# Altium schematic symbol library CMP-010-00003-3.Schlib: 1 symbol
Pins are listed as number, name and electrical type; pins without a type are passive.

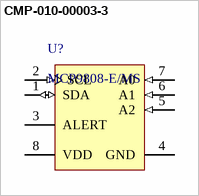
[diagram p0: symbol CMP-010-00003-3]

## CMP-010-00003-3
designator U?, comment MCP9808-E/MS
+/- 0.5 degC Maximum Accuracy Digital Temperature Sensor, 2.7 to 5.5 V, -40 to 125 degC, 8-Pin MSOP, Pb-Free, Tube; Manufacturer: Microchip; Min Supply Voltage (DC): 7V; Min Supply Voltage: 2.7V; Max Supply Voltage (DC): 5V; Output Current: 200µA; Interface: I2C; Case/Package: MSOP; Pins: 8; Max Operating Temperature: 125°C; Datasheet URL: http://ww1.microchip.com/downloads/en/DeviceDoc/25095A.pdf; Packaging: Tray; Package Reference: MSOP-MS8; Package Description: 8-Pin Plastic Micro Small Outline Package, Body 3 x 3 mm, Pitch 0.65 mm; Mounting Technology: SM; RoHS Compliant: True; Package Quantity: 100; Min Operating Temperature: -40°C; Sensor Type: Temperature; Max Supply Voltage: 5V; Datasheet Version: Rev. A, 10/2011
footprint MCHP-MSOP-MS8_M (SOP, 8-Leads, Body 3x3mm, Pitch 0.65mm, IPC Low Density)
footprint MCHP-MSOP-MS8_L (SOP, 8-Leads, Body 3x3mm, Pitch 0.65mm, IPC High Density)
footprint MCHP-MSOP-MS8_N (SOP, 8-Leads, Body 3x3mm, Pitch 0.65mm, IPC Medium Density)
pins: 1 SDA (io) "Serial Data Line", 2 SCL (in) "Serial Clock Line", 3 ALERT (oc) "Temperature Alert Output", 4 GND (power) "Ground", 5 A2 (in) "Slave Address", 6 A1 (in) "Slave Address", 7 A0 (in) "Slave Address", 8 VDD (power) "Power Pin"